# Altium footprint library TE_282836-3.PcbLib: 1 footprints
Each footprint in its own frame and in the unit in brackets; x right, y up, seen from the top. Pads: shape width x height; smd on the part's side, far side on the other; paste and mask are expansions set on the pad; w line width, h text height; cw(c..) or ccw(c..) is an arc to the next point about the centre after c.
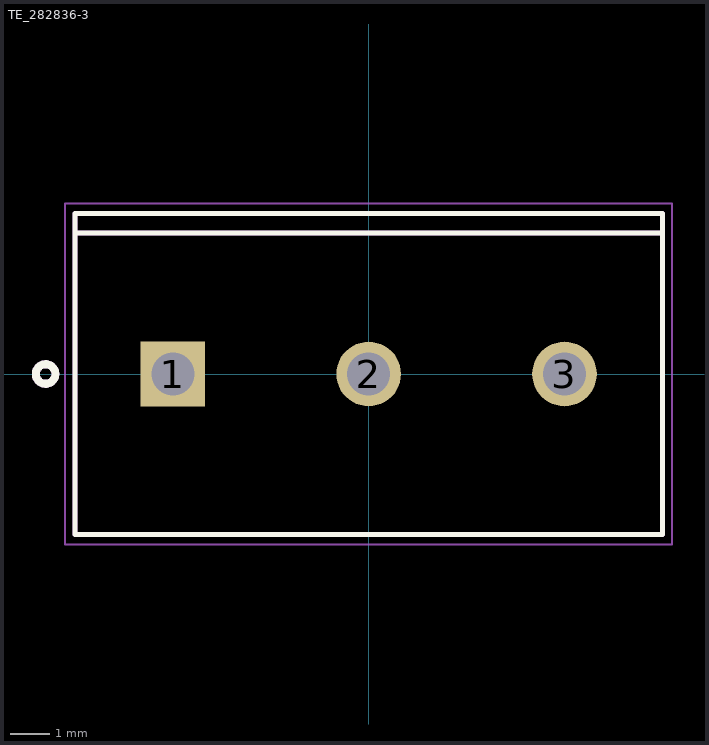
[diagram p0: the footprint, top view; thin cyan lines are the x and y axes]

## TE_282836-3 [mm]
pads (3):
  rect 1.65x1.65 hole 1.1: 1(-5,0)
  round 1.65 hole 1.1: 2(0,0) 3(5,0)
Top Overlay:
  circle w0.203: c-8.25,0 r0.25
  lines w0.127: -7.5,3.6 7.5,3.6 ; 7.5,3.6 7.5,4.1 -7.5,4.1 -7.5,-4.1 7.5,-4.1 7.5,3.6
Mechanical 13:
  circle w0.203: c-8.25,0 r0.25
  lines w0.127: -7.5,3.6 7.5,3.6 ; 7.5,3.6 7.5,4.1 -7.5,4.1 -7.5,-4.1 7.5,-4.1 7.5,3.6
Mechanical 15:
  lines w0.05: -7.75,-4.35 7.75,-4.35 7.75,4.35 -7.75,4.35 -7.75,-4.35